# EAGLE library part JST_SH_12-PIN_HORI (library tecsmith-jst)
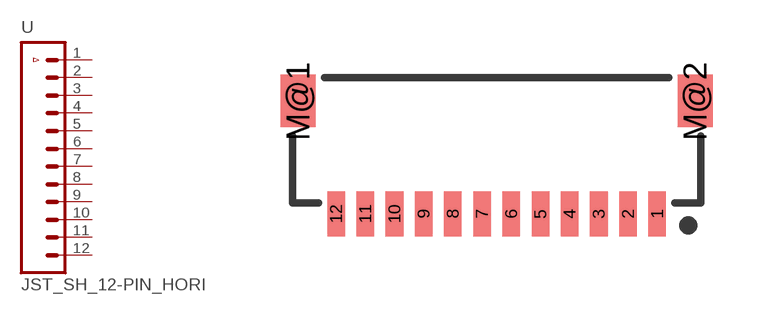
[diagram p2: symbol with the pads of JST-SH-12-SMD-HORI-1.0MM; footprint JST-SH-12-SMD-HORI-1.0MM]

Designator prefix -

## JST_SH_12-PIN_HORI  [JST-SH-12-SMD-HORI-1.0MM]
1  1  pas
2  2  pas
3  3  pas
4  4  pas
5  5  pas
6  6  pas
7  7  pas
8  8  pas
9  9  pas
10  10  pas
11  11  pas
12  12  pas
M@1  M  pas
M@2  M  pas

## Footprint JST-SH-12-SMD-HORI-1.0MM (pad centres in mm)
smd 0.6 x 1.55: 1 5.5,-2.775; 2 4.5,-2.775; 3 3.5,-2.775; 4 2.5,-2.775; 5 1.5,-2.775; 6 0.5,-2.775; 7 -0.5,-2.775; 8 -1.5,-2.775; 9 -2.5,-2.775; 10 -3.5,-2.775; 11 -4.5,-2.775; 12 -5.5,-2.775
smd 1.2 x 1.8: M@1 -6.8,1.1; M@2 6.8,1.1